# Altium footprint library 2019-05-29_05-12-58.PcbLib: 3 footprints
Each footprint in its own frame and in the unit in brackets; x right, y up, seen from the top. Pads: shape width x height; smd on the part's side, far side on the other; paste and mask are expansions set on the pad; w line width, h text height; cw(c..) or ccw(c..) is an arc to the next point about the centre after c.
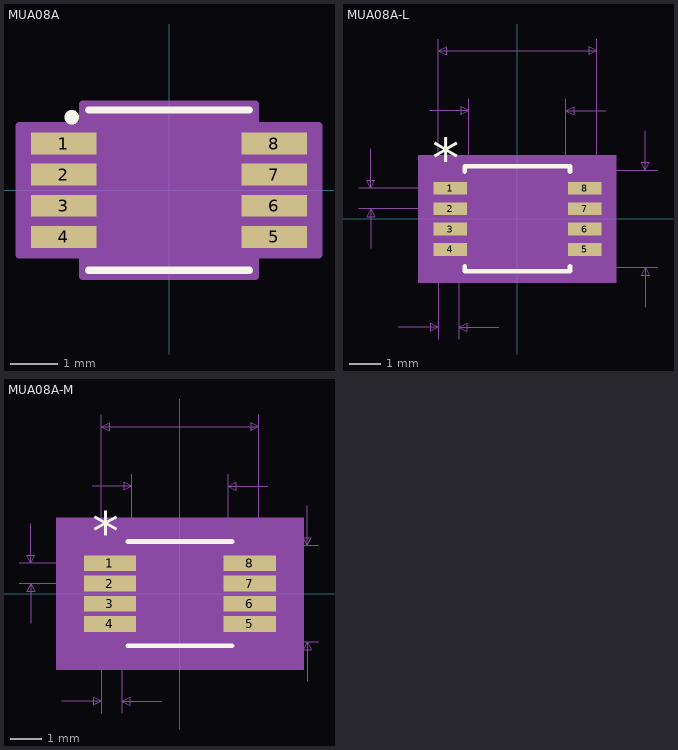
[diagram p0: the footprints below, top view; thin cyan lines are the x and y axes]

## MUA08A [mil]
pads (8):
  rect 54x18 smd: 1(-86.5,38.39) 2(-86.5,12.8) 3(-86.5,-12.8) 4(-86.5,-38.39) 5(86.5,-38.39) 6(86.5,-12.8) 7(86.5,12.8) 8(86.5,38.39)
Top Overlay:
  lines w6: -66,-66 66,-66 ; -66,66 66,66
  lines w10: -79.17,60.55 ccw(c-80,60) -79.04,60.27
Mechanical 13:
  lines w0: -12,61 ccw(c0,61) 12,61
  lines w1: -99.5,-46.39 -61,-46.39 -61,-30.39 -99.5,-30.39 -99.5,-46.39 ; -99.5,-20.8 -61,-20.8 -61,-4.8 -99.5,-4.8 -99.5,-20.8 ; -99.5,4.8 -61,4.8 -61,20.8 -99.5,20.8 -99.5,4.8 ; -99.5,30.39 -61,30.39 -61,46.39 -99.5,46.39 -99.5,30.39 ; -61,-61 61,-61 61,61 -61,61 -61,-61 ; 61,-46.39 99.5,-46.39 99.5,-30.39 61,-30.39 61,-46.39 ; 61,-20.8 99.5,-20.8 99.5,-4.8 61,-4.8 61,-20.8 ; 61,4.8 99.5,4.8 99.5,20.8 61,20.8 61,4.8 ; 61,30.39 99.5,30.39 99.5,46.39 61,46.39 61,30.39
Mechanical 15:
  region: -71,-53.18 -123.5,-53.18 -123.5,53.18 -71,53.18 -71,71 71,71 71,53.18 123.5,53.18 123.5,-53.18 71,-53.18 71,-71 -71,-71
  lines w6: -123.5,-53.18 -71,-53.18 -71,-71 71,-71 71,-53.18 123.5,-53.18 123.5,53.18 71,53.18 71,71 -71,71 -71,53.18 -123.5,53.18 -123.5,-53.18

## MUA08A-L [mil]
pads (8):
  rect 42x16 smd: 1(-84.5,38.39) 2(-84.5,12.8) 3(-84.5,-12.8) 4(-84.5,-38.39) 5(84.5,-38.39) 6(84.5,-12.8) 7(84.5,12.8) 8(84.5,38.39)
Top Overlay:
  lines w6: -66,-59.49 -66,-66 66,-66 66,-59.49 ; -66,59.49 -66,66 66,66 66,59.49
  text "*" at -107,51.39 h50
Mechanical 5:
  region: 124.5,-80 -124.5,-80 -124.5,80 124.5,80
Mechanical 7:
  lines w1: -199.5,12.8 -84.5,12.8 ; -199.5,38.39 -84.5,38.39 ; -184.5,-37.2 -184.5,12.8 ; -184.5,88.39 -184.5,38.39 ; -149.5,-136 -99.5,-136 ; -111,136 -61,136 ; -99.5,-151 -99.5,0 -99.5,226 ; -73.5,-151 -73.5,0 ; -61,0 -61,151 ; -23.5,-136 -73.5,-136 ; 0,-61 176,-61 ; 0,61 176,61 ; 61,0 61,151 ; 99.5,0 99.5,226 ; 111,136 61,136 ; 161,-111 161,-61 ; 161,111 161,61 ; -184.5,12.8 -189.5,2.8 -179.5,2.8 -184.5,12.8 ; -184.5,38.39 -189.5,48.39 -179.5,48.39 -184.5,38.39 ; -99.5,-136 -109.5,-131 -109.5,-141 -99.5,-136 ; -99.5,211 99.5,211 ; -99.5,211 -89.5,216 -89.5,206 -99.5,211 ; -73.5,-136 -63.5,-131 -63.5,-141 -73.5,-136 ; -61,136 -71,141 -71,131 -61,136 ; 61,136 71,141 71,131 61,136 ; 99.5,211 89.5,216 89.5,206 99.5,211 ; 161,-61 156,-71 166,-71 161,-61 ; 161,61 156,71 166,71 161,61
  text "Default Padstyle: RX42Y16D0T" at -350,-261 h50
  text "0.122in/3.099mm" at -93.75,156 h25
  text "0.199in/5.055mm" at -93.75,231 h25
  text "0.122in/3.099mm" at 181,-12.5 h25
  text "0.026in/0.65mm" at -379.5,13.09 h25
  text "0.026in/0.66mm" at -174,-181 h25
Mechanical 13:
  lines w0: -12,61 ccw(c0,61) 12,61
  lines w1: -99.5,-46.39 -99.5,-30.39 -61,-30.39 -61,-46.39 -99.5,-46.39 ; -99.5,-20.8 -99.5,-4.8 -61,-4.8 -61,-20.8 -99.5,-20.8 ; -99.5,4.8 -99.5,20.8 -61,20.8 -61,4.8 -99.5,4.8 ; -99.5,30.39 -99.5,46.39 -61,46.39 -61,30.39 -99.5,30.39 ; -61,-61 -61,61 61,61 61,-61 -61,-61 ; 61,-46.39 61,-30.39 99.5,-30.39 99.5,-46.39 61,-46.39 ; 61,-20.8 61,-4.8 99.5,-4.8 99.5,-20.8 61,-20.8 ; 61,4.8 61,20.8 99.5,20.8 99.5,4.8 61,4.8 ; 61,30.39 61,46.39 99.5,46.39 99.5,30.39 61,30.39
  text "*" at -63.5,26.39 h50
Mechanical 15:
  region: -65,-51.98 -109.5,-51.98 -109.5,51.98 -65,51.98 -65,65 65,65 65,51.98 109.5,51.98 109.5,-51.98 65,-51.98 65,-65 -65,-65
  lines w6: -109.5,-51.98 -109.5,51.98 -65,51.98 -65,65 65,65 65,51.98 109.5,51.98 109.5,-51.98 65,-51.98 65,-65 -65,-65 -65,-51.98 -109.5,-51.98
3D body: height 10, standoff 0, extent 0,0 10,10

## MUA08A-M [mil]
pads (8):
  rect 66x20 smd: 1(-88.5,38.39) 2(-88.5,12.8) 3(-88.5,-12.8) 4(-88.5,-38.39) 5(88.5,-38.39) 6(88.5,-12.8) 7(88.5,12.8) 8(88.5,38.39)
Top Overlay:
  lines w6: -66,-66 66,-66 ; -66,66 66,66
  text "*" at -111,53.39 h50
Mechanical 5:
  region: 156.5,-96 -156.5,-96 -156.5,96 156.5,96
Mechanical 7:
  lines w1: -203.5,12.8 -88.5,12.8 ; -203.5,38.39 -88.5,38.39 ; -188.5,-37.2 -188.5,12.8 ; -188.5,88.39 -188.5,38.39 ; -149.5,-136 -99.5,-136 ; -111,136 -61,136 ; -99.5,-151 -99.5,0 -99.5,226 ; -73.5,-151 -73.5,0 ; -61,0 -61,151 ; -23.5,-136 -73.5,-136 ; 0,-61 176,-61 ; 0,61 176,61 ; 61,0 61,151 ; 99.5,0 99.5,226 ; 111,136 61,136 ; 161,-111 161,-61 ; 161,111 161,61 ; -188.5,12.8 -193.5,2.8 -183.5,2.8 -188.5,12.8 ; -188.5,38.39 -193.5,48.39 -183.5,48.39 -188.5,38.39 ; -99.5,-136 -109.5,-131 -109.5,-141 -99.5,-136 ; -99.5,211 99.5,211 ; -99.5,211 -89.5,216 -89.5,206 -99.5,211 ; -73.5,-136 -63.5,-131 -63.5,-141 -73.5,-136 ; -61,136 -71,141 -71,131 -61,136 ; 61,136 71,141 71,131 61,136 ; 99.5,211 89.5,216 89.5,206 99.5,211 ; 161,-61 156,-71 166,-71 161,-61 ; 161,61 156,71 166,71 161,61
  text "Default Padstyle: RX66Y20D0T" at -350,-261 h50
  text "0.122in/3.099mm" at -93.75,156 h25
  text "0.199in/5.055mm" at -93.75,231 h25
  text "0.122in/3.099mm" at 181,-12.5 h25
  text "0.026in/0.65mm" at -383.5,13.09 h25
  text "0.026in/0.66mm" at -174,-181 h25
Mechanical 13:
  lines w0: -12,61 ccw(c0,61) 12,61
  lines w1: -99.5,-46.39 -99.5,-30.39 -61,-30.39 -61,-46.39 -99.5,-46.39 ; -99.5,-20.8 -99.5,-4.8 -61,-4.8 -61,-20.8 -99.5,-20.8 ; -99.5,4.8 -99.5,20.8 -61,20.8 -61,4.8 -99.5,4.8 ; -99.5,30.39 -99.5,46.39 -61,46.39 -61,30.39 -99.5,30.39 ; -61,-61 -61,61 61,61 61,-61 -61,-61 ; 61,-46.39 61,-30.39 99.5,-30.39 99.5,-46.39 61,-46.39 ; 61,-20.8 61,-4.8 99.5,-4.8 99.5,-20.8 61,-20.8 ; 61,4.8 61,20.8 99.5,20.8 99.5,4.8 61,4.8 ; 61,30.39 61,46.39 99.5,46.39 99.5,30.39 61,30.39
  text "*" at -63.5,28.39 h50
Mechanical 15:
  region: -81,-55.18 -141.5,-55.18 -141.5,55.18 -81,55.18 -81,81 81,81 81,55.18 141.5,55.18 141.5,-55.18 81,-55.18 81,-81 -81,-81
  lines w6: -141.5,-55.18 -141.5,55.18 -81,55.18 -81,81 81,81 81,55.18 141.5,55.18 141.5,-55.18 81,-55.18 81,-81 -81,-81 -81,-55.18 -141.5,-55.18
3D body: height 10, standoff 0, extent 0,0 10,10